# Altium schematic symbol library 12V Power lib.SchLib: 26 symbols
Pins are listed as number, name and electrical type; pins without a type are passive.

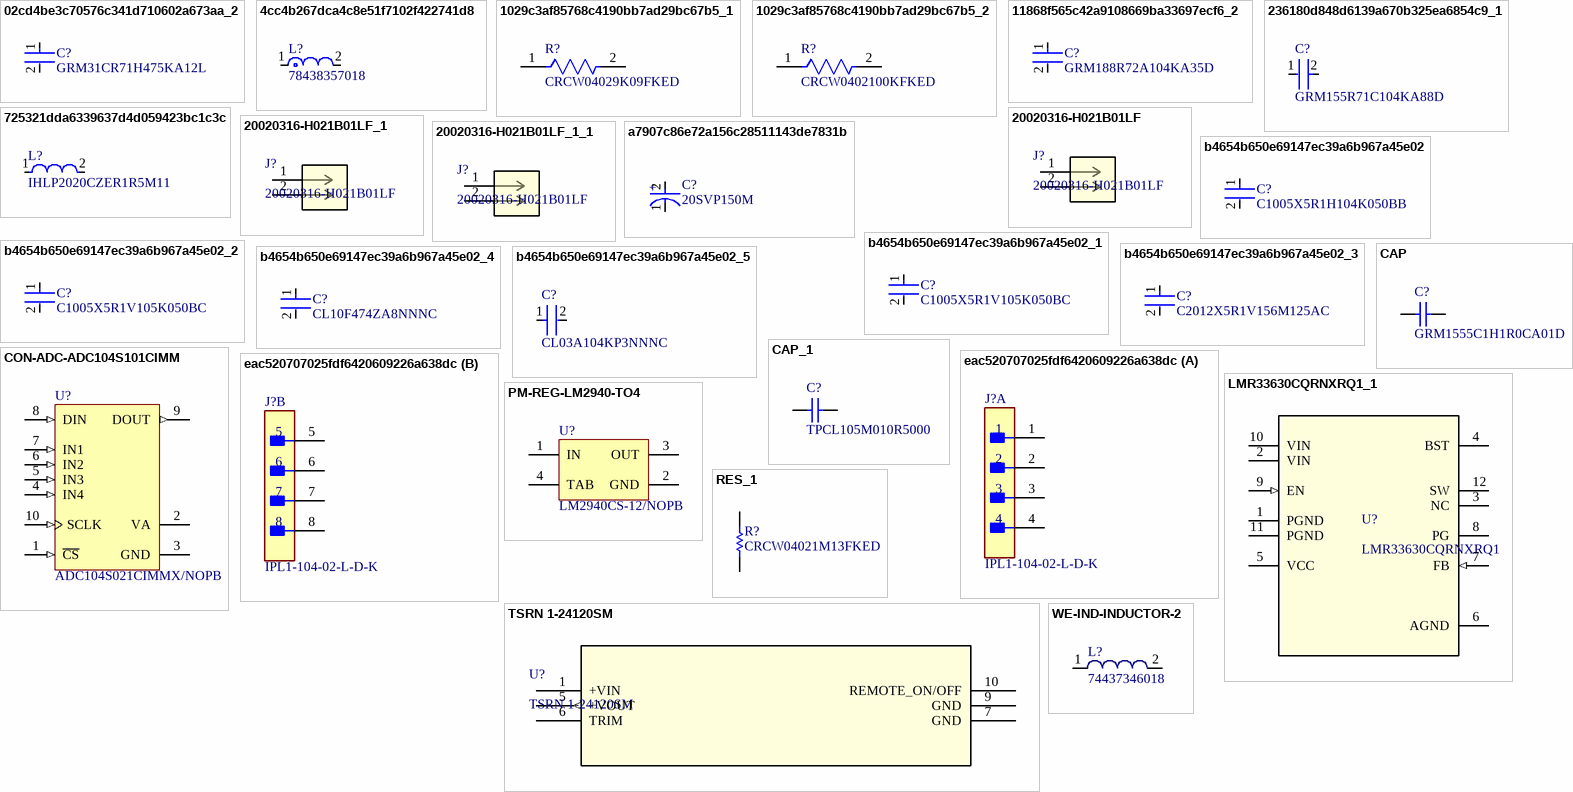
[diagram p0: symbols 02cd4be3c70576c341d710602a673aa_2 to WE-IND-INDUCTOR-2]

## 02cd4be3c70576c341d710602a673aa_2
designator C?, comment GRM31CR71H475KA12L
Chip Multilayer Ceramic Capacitors for General Purpose, 1206, 4.7uF, X7R, 15%, 10%, 50V; Height: 1.6mm; Voltage: 50V; Capacitance: 4.7uF; Lead Free: Lead Free; Max Operating Temperature: 125°C; Packaging: Tape and Reel; REACH SVHC: No SVHC; Voltage Rating: 50V; Mount: Surface Mount; Termination: SMD/SMT; Tolerance: 10%; Case/Package: 1206; Material: Ceramic; Depth: 1.6mm; Length: 3.2mm; Case Code (Metric): 3216; Voltage Rating (DC): 50V; Case Code (Imperial): 1206; Radiation Hardening: No; Width: 0.063inch; Thickness: 0.071inch; Package Quantity: 2000; Min Operating Temperature: -55°C; Dielectric: X7R
footprint FP-GRM31C-0_2-e0_3_0_8-IPC_C
footprint FP-GRM31C-0_2-e0_3_0_8-IPC_B
footprint FP-GRM31C-0_2-e0_3_0_8-IPC_A
footprint FP-GRM31C-0_2-e0_3_0_8-MFG
pins: 1, 2

## 4cc4b267dca4c8e51f7102f422741d8
designator L?, comment 78438357018
FIXED IND 1.8UH 5.8A 21MOHM SMD; Saturation Current: 8A; Tolerance: 20%; Test Frequency: 100kHz; Shielding: Shielded; Self Resonant Frequency: 42MHz; DC Resistance (DCR): 21mR; Core Material: Ferrite; Max Operating Temperature: 125°C; Ratings: AEC-Q200; RoHS Compliant: Yes; Packaging: Tape and Reel; Inductance: 1.8uH; Current Rating: 5.8A; Resistor Type: Wirewound; Case/Package: Nonstandard; Mount: Surface Mount; Min Operating Temperature: -40°C
footprint FP-78438357018-MFG
pins: 1, 2

## 1029c3af85768c4190bb7ad29bc67b5_1
designator R?, comment CRCW04029K09FKED
RES Thick Film, 9.09kΩ, 1%, 0.063W, 100ppm/°C, 0402; Voltage Rating (DC): 50V; Resistance: 9.09kR; Max Power Dissipation: 63mW; Radiation Hardening: No; Number of Pins: 2; Lead Free: Lead Free; Weight: 2.3E-05oz; Contact Plating: Tin; Tolerance: 1%; Depth: 0.5mm; Mount: Surface Mount; Composition: Thick Film; Voltage Rating: 50V; Features: Automotive AEC-Q200; Packaging: Tape and Reel; Power Rating: 63mW; Height: 0.35mm; Min Operating Temperature: -55°C; Number of Terminations: 2; Package Quantity: 10; Case Code (Imperial): 0402; Temperature Coefficient: 100ppm/°C; Case/Package: 0402; Max Operating Temperature: 155°C; Military Standard: Not; Termination: SMD/SMT; Case Code (Metric): 1005; Width: 0.02inch; Length: 1mm
footprint FP-CRCW0402-e3-IPC_A
footprint FP-CRCW0402-e3-IPC_B
footprint FP-CRCW0402-e3-MFG
footprint FP-CRCW0402-e3-IPC_C
pins: 1, 2

## 1029c3af85768c4190bb7ad29bc67b5_2
designator R?, comment CRCW0402100KFKED
RES Thick Film, 100kΩ, 1%, 0.063W, 100ppm/°C, 0402; Power Rating: 63mW; Resistance: 100kR; Voltage Rating (DC): 50V; Lead Free: Lead Free; Height: 0.35mm; Contact Plating: Tin; Min Operating Temperature: -55°C; Package Quantity: 10000; Case/Package: 0402; Temperature Coefficient: 100ppm/°C; Number of Terminations: 2; Packaging: Tape and Reel; Max Power Dissipation: 63mW; Case Code (Metric): 1005; Mount: Surface Mount; Width: 0.02inch; Termination: SMD/SMT; Length: 1mm; Number of Pins: 2; Weight: 2.3E-05oz; Radiation Hardening: No; Tolerance: 1%; Military Standard: Not; Features: Automotive AEC-Q200; Depth: 0.5mm; Composition: Thick Film; Max Operating Temperature: 155°C; Voltage Rating: 50V; Case Code (Imperial): 0402
footprint FP-CRCW0402-e3-IPC_C
footprint FP-CRCW0402-e3-IPC_A
footprint FP-CRCW0402-e3-IPC_B
footprint FP-CRCW0402-e3-MFG
pins: 1, 2

## 11868f565c42a9108669ba33697ecf6_2
designator C?, comment GRM188R72A104KA35D
Chip Multilayer Ceramic Capacitors for General Purpose, 0603, 0.10uF, X7R, 15%, 10%, 100V; Capacitance: 100nF; Voltage Rating (DC): 100V; Material: Ceramic; Packaging: Tape and Reel; Dielectric: X7R; Case Code (Imperial): 0603; Package Quantity: 1; Height: 0.8mm; Weight: 0.000222oz; Min Operating Temperature: -55°C; Depth: 0.8mm; Mount: Surface Mount; Thickness: 0.035inch; Voltage: 100V; REACH SVHC: No SVHC; Case/Package: 0603; Voltage Rating: 100V; Width: 0.8mm; Tolerance: 10%; Lead Free: Lead Free; Case Code (Metric): 1608; Radiation Hardening: No; Max Operating Temperature: 125°C; Termination: SMD/SMT; Length: 1.6mm
footprint FP-GRM188-0_1-e0_2_0_5-IPC_B
footprint FP-GRM188-0_1-e0_2_0_5-IPC_A
footprint FP-GRM188-0_1-e0_2_0_5-MFG
footprint FP-GRM188-0_1-e0_2_0_5-IPC_C
pins: 1, 2

## 236180d848d6139a670b325ea6854c9_1
designator C?, comment GRM155R71C104KA88D
CAP CER 0.1UF 16V X7R 0402; Manufacturer: Murata; Standoff Height: 0mm; Tolerance: 10%; Description: CAP Ceramic 0.10μF 10% X7R 16Vdc 0402 SMD; Voltage Rating: 16Vdc; Material: Ceramic; Capacitance: 0.10μF; Value: 0.10μF; RoHS: TRUE; Manufacturer Part Number: GRM155R71C104KA88D; Temperature Characteristic: X7R; Octopart: https://octopart.com/grm155r71c104ka88d-murata-196880; Digikey Description: CAP CER 0.1UF 16V X7R 0402; Device Class L3: Ceramic Capacitors; Height: 0.55mm; ComponentLink2Description: Datasheet; Temperature Range Low: -55°C; Ipc Land Pattern Name: CAPC10050X219; ComponentLink2URL: https://search.murata.co.jp/Ceramy/image/img/A01X/G101/ENG/GRM155R71H471KA01-01A.pdf; Device Class L1: Passive Components; Lead Free: yes; Category: Cap; Package: GRM15; Temperature: -55°C to +125°C; Device Class L2: Capacitors; Temperature Range High: +125°C; Mouser Description: 0402 0.1 uF 16V ±10 % Tolerance X7R SMT Multilayer Ceramic Capacitor
footprint FP-GRM15-MFG
footprint FP-GRM15-IPC_C
footprint FP-GRM15-IPC_B
footprint FP-GRM15-IPC_A
pins: 1, 2

## 725321dda6339637d4d059423bc1c3c
designator L?, comment IHLP2020CZER1R5M11
Fixed Inductors Commercial Low DCR Series 1.5uH 7.5A 18.5mΩ 20%; Shielding: Shielded; Core Material: Ferrite; Self Resonant Frequency: 39MHz; Saturation Current: 7A; DC Resistance (DCR): 18.5mR; Test Frequency: 100kHz; RMS Current (Irms): 7.5A; Contact Plating: Tin; Inductance Tolerance: 20%; Inductance: 1.5uH; Packaging: Tape and Reel; Depth: 5.43mm; Case/Package: 2020; Mount: Surface Mount; Height: 3mm; Max Operating Temperature: 125°C; Width: 5.18mm; Termination: SMD/SMT; Radiation Hardening: No; Number of Pins: 2020; Package Quantity: 2000; Lead Free: Lead Free; Length: 5.74mm; Max DC Current: 7.5A; Height - Seated (Max): 0.118inch; Military Standard: Not; Tolerance: 20%; Min Operating Temperature: -55°C; Current Rating: 7.5A
footprint FP-IHLP-2020CZ-FP_1_905x2-MFG
pins: 1, 2

## 20020316-H021B01LF
designator J?
No Description Available; Mfr_Name: Amphenol ICC; Copyright: Copyright (C) 2022 Ultra Librarian. All rights reserved.; Manufacturer_Part_Number: 20020316-H021B01LF; RefDes: RefDes; Type: DEV
footprint CONN_20020316-H021B01LF_AMP
pins: 1, 2

## 20020316-H021B01LF_1
designator J?, comment 20020316-H021B01LF
No Description Available; Mfr_Name: Amphenol ICC; Copyright: Copyright (C) 2022 Ultra Librarian. All rights reserved.; Manufacturer_Part_Number: 20020316-H021B01LF; RefDes: RefDes; Type: DEV
footprint CONN_20020316-H021B01LF_AMP
pins: 1, 2

## 20020316-H021B01LF_1_1
designator J?, comment 20020316-H021B01LF
No Description Available; Mfr_Name: Amphenol ICC; Copyright: Copyright (C) 2022 Ultra Librarian. All rights reserved.; Manufacturer_Part_Number: 20020316-H021B01LF; RefDes: RefDes; Type: DEV
footprint CONN_20020316-H021B01LF_AMP
pins: 1, 2

## a7907c86e72a156c28511143de7831b
designator C?, comment 20SVP150M
Conductive Polymer Aluminum Solid Capacitors (OS-CON) 150uF ±20% 20V RADIAL SMT 10x12.6mm; ESR (Equivalent Series Resistance): 20mR; Ripple Current (AC): 4.32A; Polarity: Polar; Life (Hours): 2000Hour; Leakage Current: 600uA; Dissipation Factor: 15%; Package Quantity: 400; Series: OS-CON™, SVP; Min Operating Temperature: -55°C; Mount: Surface Mount; Tolerance: 20%; Voltage Rating: 20V; Packaging: Tape and Reel; RoHS Compliant: Yes; Number of Pins: 12; Voltage: 20V; REACH SVHC: No SVHC; Diameter: 10mm; Construction: Cylindrical; Height: 12.6mm; Case/Package: Radial; Capacitance: 150uF; Length: 12.6mm; Height - Seated (Max): 0.5inch; Termination: SMD/SMT; Ripple Current: 4.32A; Lead Free: Lead Free; Voltage Rating (DC): 20V; Max Operating Temperature: 105°C; Radiation Hardening: No
footprint FP-OS-CON-SMT-F12-MFG
pins: 1 C, 2 A
text: +

## b4654b650e69147ec39a6b967a45e02
designator C?, comment C1005X5R1H104K050BB
Multilayer Ceramic Capacitors 100nF ±10% 50V X5R SMD 0402; Voltage Rating: 50V; Weight: 2.3E-05oz; Construction: Flat; Dielectric: X5R; Packaging: Tape and Reel; REACH SVHC: No SVHC; Width: 0.02inch; RoHS Compliant: Yes; Capacitance: 100nF; Depth: 0.5mm; Voltage Rating (DC): 50V; Dielectric Material: Ceramic; Height: 0.5mm; Min Operating Temperature: -55°C; Voltage: 50V; Case Code (Imperial): 0402; Tolerance: 10%; Termination: SMD/SMT; Package Quantity: 1; Radiation Hardening: No; Resistor Type: Ceramic; Case/Package: 0402; Length: 1mm; Lead Free: Lead Free; Thickness: 0.022inch; Mount: Surface Mount; Case Code (Metric): 1005; Max Operating Temperature: 85°C; Series: C
footprint FP-C1005-050-0_05-MFG
footprint FP-C1005-050-0_05-IPC_C
footprint FP-C1005-050-0_05-IPC_A
footprint FP-C1005-050-0_05-IPC_B
pins: 1, 2

## b4654b650e69147ec39a6b967a45e02_1
designator C?, comment C1005X5R1V105K050BC
Multilayer Ceramic Capacitors 1μF ±10% 35V X5R SMD 0402; Capacitance: 1uF; Series: C; Voltage Rating (DC): 35V; Max Operating Temperature: 85°C; Resistor Type: Ceramic; REACH SVHC: No SVHC; Package Quantity: 1; Packaging: Tape and Reel; Termination: SMD/SMT; Dielectric Material: Ceramic; Height: 0.5mm; Length: 1mm; Min Operating Temperature: -55°C; Dielectric: X5R; Thickness: 0.022inch; Lead Free: Lead Free; Voltage Rating: 35V; Width: 0.02inch; Depth: 0.5mm; Case Code (Imperial): 0402; Case/Package: 0402; Tolerance: 10%; Weight: 2.3E-05oz; Radiation Hardening: No; RoHS Compliant: Yes; Case Code (Metric): 1005; Mount: Surface Mount
footprint FP-C1005-050-0_05-IPC_C
footprint FP-C1005-050-0_05-IPC_A
footprint FP-C1005-050-0_05-IPC_B
footprint FP-C1005-050-0_05-MFG
pins: 1, 2

## b4654b650e69147ec39a6b967a45e02_2
designator C?, comment C1005X5R1V105K050BC
Multilayer Ceramic Capacitors 1μF ±10% 35V X5R SMD 0402; Capacitance: 1uF; Series: C; Voltage Rating (DC): 35V; Max Operating Temperature: 85°C; Resistor Type: Ceramic; REACH SVHC: No SVHC; Package Quantity: 1; Packaging: Tape and Reel; Termination: SMD/SMT; Dielectric Material: Ceramic; Height: 0.5mm; Length: 1mm; Min Operating Temperature: -55°C; Dielectric: X5R; Thickness: 0.022inch; Lead Free: Lead Free; Voltage Rating: 35V; Width: 0.02inch; Depth: 0.5mm; Case Code (Imperial): 0402; Case/Package: 0402; Tolerance: 10%; Weight: 2.3E-05oz; Radiation Hardening: No; RoHS Compliant: Yes; Case Code (Metric): 1005; Mount: Surface Mount
footprint FP-C1005-050-0_05-IPC_C
footprint FP-C1005-050-0_05-IPC_A
footprint FP-C1005-050-0_05-IPC_B
footprint FP-C1005-050-0_05-MFG
pins: 1, 2

## b4654b650e69147ec39a6b967a45e02_3
designator C?, comment C2012X5R1V156M125AC
Multilayer Ceramic Capacitors 15μF ±20% 35V X5R SMD 0805; Capacitance: 15uF; Mount: Surface Mount; Dielectric Material: Ceramic; Package Quantity: 2000; Termination: SMD/SMT; Height: 1.25mm; Min Operating Temperature: -55°C; Tolerance: 20%; Width: 0.049inch; Length: 0.079inch; Lead Free: Lead Free; Max Operating Temperature: 85°C; Voltage Rating: 35V; Case/Package: 0805; Packaging: Tape and Reel; RoHS Compliant: Yes; Case Code (Metric): 2012; Voltage Rating (DC): 35V; Dielectric: X5R; Thickness: 0.057inch; Case Code (Imperial): 0805; Resistor Type: Ceramic; Series: C
footprint FP-C2012-125-0_2-MFG
footprint FP-C2012-125-0_2-IPC_C
footprint FP-C2012-125-0_2-IPC_B
footprint FP-C2012-125-0_2-IPC_A
pins: 1, 2

## b4654b650e69147ec39a6b967a45e02_4
designator C?, comment CL10F474ZA8NNNC
Cap Ceramic 470nF 25V Y5V -20/+80% Pad SMD 0603 +85°C T/R; Tolerance: 80%; Packaging: Tape and Reel; Mount: Surface Mount; Height: 0.8mm; Voltage Rating: 25V; Width: 0.031inch; Lead Free: Lead Free; Dielectric: Y5V; Min Operating Temperature: -30°C; Package Quantity: 1; Thickness: 0.035inch; Case Code (Imperial): 0603; Radiation Hardening: No; Case/Package: 0603; Case Code (Metric): 1608; Length: 1.6mm; Depth: 0.8mm; Voltage Rating (DC): 25V; Capacitance: 470nF; Max Operating Temperature: 85°C
footprint FP-CL10-IPC_C
footprint FP-CL10-IPC_A
footprint FP-CL10-IPC_B
pins: 1, 2

## b4654b650e69147ec39a6b967a45e02_5
designator C?, comment CL03A104KP3NNNC
Cap Ceramic 100nF 10V X5R ±10% Pad SMD 0201 +85°C T/R; Radiation Hardening: No; Voltage Rating: 10V; Dielectric: X5R; Length: 0.6mm; Voltage Rating (DC): 10V; Package Quantity: 1; Height: 0.3mm; Width: 0.012inch; Min Operating Temperature: -55°C; Lead Free: Lead Free; Tolerance: 10%; Contact Plating: Tin; Depth: 0.3mm; Max Operating Temperature: 85°C; Case/Package: 0201; Capacitance: 100nF; Mount: Surface Mount; Thickness: 0.013inch; Case Code (Metric): 0603; Case Code (Imperial): 0201; Packaging: Tape and Reel
footprint FP-CL03-IPC_C
footprint FP-CL03-IPC_A
footprint FP-CL03-IPC_B
pins: 1, 2

## CAP
designator C?, comment GRM1555C1H1R0CA01D
Manufacturer: Murata; Part Number: GRM1555C1H1R0CA01D
footprint CAPC1005X55X25NL05T10 (Chip Capacitor, 2-Leads, Body 1.00x0.50mm, IPC Medium Density)
footprint CAPC1005X55X25ML05T10 (Chip Capacitor, 2-Leads, Body 1.00x0.50mm, IPC Low Density)
footprint CAPC1005X55X25LL05T10 (Chip Capacitor, 2-Leads, Body 1.00x0.50mm, IPC High Density)
pins: 1, 2
1 alternate drawing of the same symbol

## CAP_1
designator C?, comment TPCL105M010R5000
Manufacturer: AVX Interconnect / Elco; Part Number: TPCL105M010R5000
footprint CAPC1609X100X15LL20 (Chip Capacitor, 2-Leads, Body 1.60x0.85mm, IPC High Density)
footprint CAPC1609X100X15ML20 (Chip Capacitor, 2-Leads, Body 1.60x0.85mm, IPC Low Density)
footprint CAPC1609X100X15NL20 (Chip Capacitor, 2-Leads, Body 1.60x0.85mm, IPC Medium Density)
pins: 1, 2
1 alternate drawing of the same symbol

## CON-ADC-ADC104S101CIMM
designator U?, comment ADC104S021CIMMX/NOPB
4 Channel, 50 kSPS to 200 kSPS, 10-Bit A/D Converter, 10-pin Mini SOIC, Pb-Free; Manufacturer: National Semiconductor; PackageTopMarking: ZXTT*X20C; PowerWise: Y; CompType: ADC IC; RoHS: Y; DatasheetVersion: Feb-2010; PackageReference: MUB10A; ComponentLink3Description: MUB10A Package Page; ComponentLink1Description: ADC104S021 Datasheet; ComponentLink1URL: http://www.national.com/ds/AD/ADC104S021.pdf; ComponentLink2Description: ADC104S021 Web Page; PinCount: 10; Code_JEDEC: MO-187-BA; PackageDescription: Mini-SO, Molded, .118 x .118 x .034in Body, 10 Lead, .0197in Pitch; ComponentLink2URL: http://www.national.com/pf/AD/ADC104S021.html; PackageVersion: revB, Jul-2003; RevisionNote: Component URLs added; ComponentLink3URL: http://www.national.com/packaging/folders/mub10a.html
footprint MUB10A_N (TSSOP, 10-Leads, Body 3x3mm, Pitch 0.5mm, IPC Medium Density)
footprint MUB10A_M (TSSOP, 10-Leads, Body 3x3mm, Pitch 0.5mm, IPC Low Density)
footprint MUB10A_L (TSSOP, 10-Leads, Body 3x3mm, Pitch 0.5mm, IPC High Density)
pins: 1 ~{CS} (in), 2 VA (power), 3 GND (power), 4 IN4 (in), 5 IN3 (in), 6 IN2 (in), 7 IN1 (in), 8 DIN (in), 9 DOUT (out), 10 SCLK (in)

## eac520707025fdf6420609226a638dc
designator J?, comment IPL1-104-02-L-D-K
4 Position 2 Row .100" (2.54 mm) pitch connector; Number of Contacts: 8; Pitch: 2.54mm; Max Voltage Rating (AC): 675V; Max Current Rating: 7.4A; Gender: Male; Number of Ports: 1; Min Operating Temperature: -55°C; Length: 11.68mm; Mount: Surface Mount; Housing Material: Polymer; Orientation: Straight; Packaging: Rail/Tube; Max Operating Temperature: 125°C; Contact Plating: Gold; Radiation Hardening: No; Termination: Solder; Contact Material: Bronze; Number of Terminals/Pins: 8; Depth: 9.58mm
footprint FP-IPL1-104-02-L-D-K-0
part A pins: 1, 2, 3, 4
part B pins: 5, 6, 7, 8

## LMR33630CQRNXRQ1_1
designator U?, comment LMR33630CQRNXRQ1
No Description Available; Mfr_Name: Texas Instruments; Type: DEV; RefDes: RefDes; Copyright: Copyright (C) 2022 Ultra Librarian. All rights reserved.; Manufacturer_Part_Number: LMR33630CQRNXRQ1
footprint RNX0012B
pins: 1 PGND (power), 2 VIN (power), 3 NC, 4 BST, 5 VCC (power), 6 AGND (power), 7 FB (in), 8 PG (oc), 9 EN (in), 10 VIN (power), 11 PGND (power), 12 SW (power)

## PM-REG-LM2940-TO4
designator U?, comment LM2940CS-12/NOPB
1A Low Dropout Regulator, 3-pin TO-263, Pb-Free; Manufacturer: Texas Instruments; PowerWise: N; CompType: LDO IC; PackageTopMarking: NSUZXYTTE#*LM2940CS*-12 P+; PackageDescription: TO-263, Molded, .400 x .390 x .180in, 3 Lead, .1in Pitch, Surface Mount; Code_JEDEC: MO-169-AA; RoHS: Y; PackageReference: KTT0003B; ComponentLink1Description: Datasheet URL; ComponentLink1URL: http://www.ti.com/general/docs/lit/getliterature.tsp?genericPartNumber=LM2940C&fileType=pdf; PinCount: 3
footprint KTT0003B_N (D2-PAK, 3-Leads, Body 10.41x8.89mm, Pitch 2.54mm, IPC Medium Density)
footprint KTT0003B_M (D2-PAK, 3-Leads, Body 10.41x8.89mm, Pitch 2.54mm, IPC Low Density)
footprint KTT0003B_L (D2-PAK, 3-Leads, Body 10.41x8.89mm, Pitch 2.54mm, IPC High Density)
pins: 1 IN (power), 2 GND (power), 3 OUT (power), 4 TAB (power)

## RES_1
designator R?, comment CRCW04021M13FKED
Manufacturer: Vishay Dale; Part Number: CRCW04021M13FKED
footprint RESC1005X40X25ML05T05 (Chip Resistor, 2-Leads, Body 1.00x0.50mm, IPC Low Density)
footprint RESC1005X40X25LL05T05 (Chip Resistor, 2-Leads, Body 1.00x0.50mm, IPC High Density)
footprint RESC1005X40X25NL05T05 (Chip Resistor, 2-Leads, Body 1.00x0.50mm, IPC Medium Density)
pins: 1, 2
1 alternate drawing of the same symbol

## TSRN 1-24120SM
designator U?
No Description Available; Mfr_Name: Traco Power; Copyright: Copyright (C) 2022 Ultra Librarian. All rights reserved.; Manufacturer_Part_Number: TSRN 1-24120SM; RefDes: RefDes; Type: DEV
footprint TSR(N) 1SM_TRP
pins: 1 +VIN (power), 5 +VOUT (out), 6 TRIM, 7 GND, 9 GND, 10 REMOTE_ON/OFF

## WE-IND-INDUCTOR-2
designator L?, comment 74437346018
SMD Power Inductor WE-LHMI, L=1.8 µH; Manufacturer: Wuerth Elektronik; Inductance: 1.8 ÂµH; ComponentLink1URL: http://www.we-online.com; PackageReference: WE-LHMI 7030; ComponentLink1Description: Manufacturer URL; PartNumber: 74437346018; ComponentLink2URL: http://katalog.we-online.de/kataloge/eisos/media/pdf/74437346018.pdf; ComponentLink2Description: Datasheet
footprint WE-LHMI 7030 (SMD Inductor, 2-Leads, Body 7.3 x 6.6mm)
pins: 1, 2